# Altium schematic symbol library CP2102N-A02-GQFN28.SchLib: 1 symbol
Pins are listed as number, name and electrical type; pins without a type are passive.

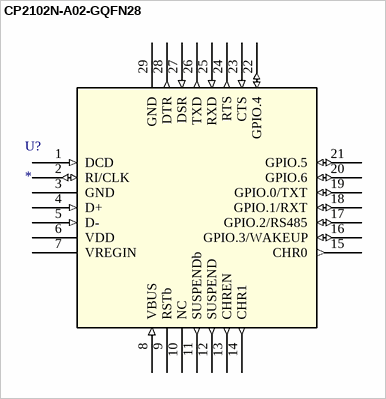
[diagram p0: symbol CP2102N-A02-GQFN28]

## CP2102N-A02-GQFN28
designator U?
No Description Available; Mfr_Name: Silicon Labs; RefDes: RefDes; Type: Type
footprint QFN28_5X5_SIL
pins: 1 DCD (in), 2 RI/CLK (io), 3 GND (power), 4 D+ (in), 5 D- (in), 6 VDD (power), 7 VREGIN (power), 8 VBUS (in), 9 RSTb, 10 NC, 11 SUSPENDb (out), 12 SUSPEND (out), 13 CHREN (out), 14 CHR1 (out), 15 CHR0 (out), 16 GPIO.3/WAKEUP (io), 17 GPIO.2/RS485 (io), 18 GPIO.1/RXT (io), 19 GPIO.0/TXT (io), 20 GPIO.6 (io), 21 GPIO.5 (io), 22 GPIO.4 (io), 23 CTS (in), 24 RTS (out), 25 RXD (in), 26 TXD (out), 27 DSR (in), 28 DTR (out), 29 GND (power)